# EAGLE library part LMP2232* (library Soil Power Sensor)
Dual, Micropower, 1.6V, Precision , Operational Amplifier with CMOS Input
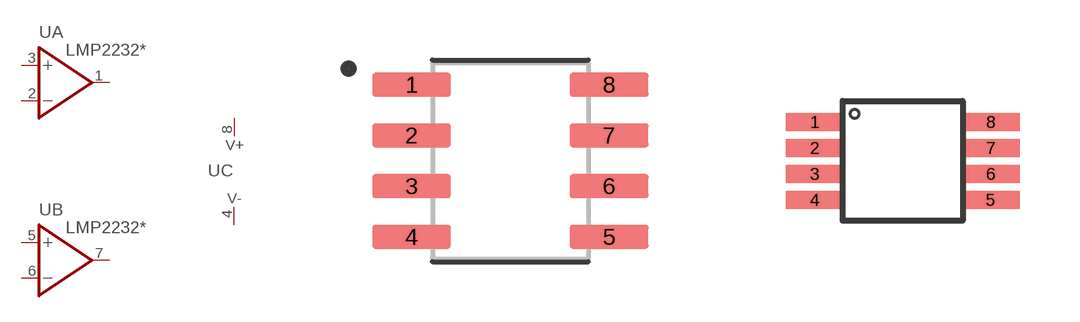
[diagram p0: symbol with the pads of SOIC127P599X175-8N; footprints SOIC127P599X175-8N, SOP65P490X110-8N]

Designator prefix -; gates A=OPAMP B=OPAMP C=V+V-

## LMP2232AMAX/NOPB (AUTHOR: John Madden <jmadden173@pm.me>; DATE_CREATED: 2023-04-05; DATE_MODIFIED: 2023-04-05; MFC: TI; MPN: LMP2232AMAX/NOPB; QTY: 1; REF: https://www.ti.com/product/LMP2232), LMP2232BMAX/NOPB (AUTHOR: John Madden <jmadden173@pm.me>; DATE_CREATED: 2023-04-05; DATE_MODIFIED: 2023-04-05; MFC: TI; MPN: LMP2232BMAX/NOPB; QTY: 1; REF: https://www.ti.com/product/LMP2232)  [SOIC127P599X175-8N]
1  A:OUT  out
2  A:-IN  in
3  A:+IN  in
4  C:V-  pwr
5  B:+IN  in
6  B:-IN  in
7  B:OUT  out
8  C:V+  pwr

## LMP2232AMMX/NOPB (AUTHOR: John Madden <jmadden173@pm.me>; DATE_CREATED: 2023-04-05; DATE_MODIFIED: 2023-04-05; MFC: TI; MPN: LMP2232AMMX/NOPB; QTY: 1; REF: https://www.ti.com/product/LMP2232), LMP2232BMMX/NOPB (AUTHOR: John Madden <jmadden173@pm.me>; DATE_CREATED: 2023-04-05; DATE_MODIFIED: 2023-04-05; MFC: TI; MPN: LMP2232BMMX/NOPB; QTY: 1; REF: https://www.ti.com/product/LMP2232)  [SOP65P490X110-8N]
Pads as for SOIC127P599X175-8N

## Footprint SOIC127P599X175-8N (pad centres in mm)
smd 1.97 x 0.6: 1 -2.47,1.905; 2 -2.47,0.635; 3 -2.47,-0.635; 4 -2.47,-1.905; 5 2.47,-1.905; 6 2.47,-0.635; 7 2.47,0.635; 8 2.47,1.905

## Footprint SOP65P490X110-8N (pad centres in mm)
Package Outline, 8L uMAX/uSOP Document Number: 21-0036 https://pdfserv.maximintegrated.com/package_dwgs/21-0036.PDF
smd 1.45 x 0.45: 1 -2.15,0.975; 2 -2.15,0.325; 3 -2.15,-0.325; 4 -2.15,-0.975; 5 2.25,-0.975; 6 2.25,-0.325; 7 2.25,0.325; 8 2.25,0.975